# Altium footprint library RL895.PcbLib: 1 footprints
Each footprint in its own frame and in the unit in brackets; x right, y up, seen from the top. Pads: shape width x height; smd on the part's side, far side on the other; paste and mask are expansions set on the pad; w line width, h text height; cw(c..) or ccw(c..) is an arc to the next point about the centre after c.
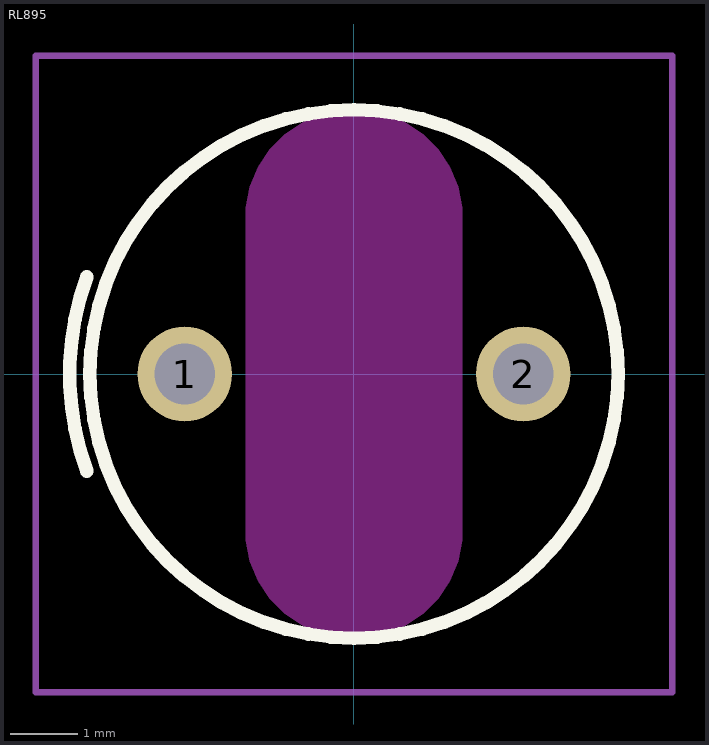
[diagram p0: the footprint, top view; thin cyan lines are the x and y axes]

## RL895 [mm]
pads (2):
  round 1.4 hole 0.9: 1(-2.5,0) 2(2.5,0)
Top Layer keep-out:
  region: -1.6,2.3 -1.6,2.458 -1.539,2.767 -1.418,3.058 -1.243,3.32 -1.02,3.543 -0.758,3.718 -0.467,3.839 -0.158,3.9 0,3.9 0.158,3.9 0.467,3.839 0.758,3.718 1.02,3.543 1.243,3.32 1.418,3.058 1.539,2.767 1.6,2.458 1.6,2.3 1.6,-2.3 1.6,-2.458 1.539,-2.767 1.418,-3.058 1.243,-3.32 1.02,-3.543 0.758,-3.718 0.467,-3.839 0.158,-3.9 0,-3.9 -0.158,-3.9 -0.467,-3.839 -0.758,-3.718 -1.02,-3.543 -1.243,-3.32 -1.418,-3.058 -1.539,-2.767 -1.6,-2.458 -1.6,-2.3
Top Overlay:
  circle w0.2: c0,0 r3.9
  lines w0.2: -3.947,-1.436 cw(c0,0) -3.947,1.436
Top Courtyard:
  lines w0.1: -4.7,-4.7 0,-4.7 4.7,-4.7 4.7,4.7 -4.7,4.7 -4.7,-4.7
3D body "rl895(2).stp": height 9.55, standoff -4.95, extent -3.9,-3.9 3.9,3.9